# Altium schematic symbol library SCH - CONNECTORS - WURTH - 7461071.SCHLIB: 1 symbol
Pins are listed as number, name and electrical type; pins without a type are passive.

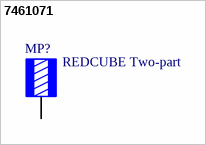
[diagram p0: symbol 7461071]

## 7461071
designator MP?, comment REDCUBE Two-part
WP-TGCF REDCUBE Press-Fit Two-part, ground terminal, 13x13mm, ID7.3mm, 16 pins, 240A; Part Number: 7461071; Inner Diameter: 7.3mm; Pin Number: 16; Surface: Tin; ComponentLink1Description: Manufacturer; ComponentLink1URL: http://www.we-online.de; ComponentLink2Description: Datasheet; ComponentLink2URL: https://katalog.we-online.com/em/datasheet/7461071.pdf; Mounting Technology: Press-Fit; Height: 3.1mm; Packaging: Bulk; Operating Temperature: -55 to +150degC; Material: Brass; Publisher: Wurth Elektronik; Published Date: September 2019; Size: 13x13mm; Rated Current: 240A
footprint 7461071_for chemical surfaces
pins: 1